# Altium schematic symbol library SparkFun-GPS.SCHLIB: 8 symbols
Pins are listed as number, name and electrical type; pins without a type are passive.

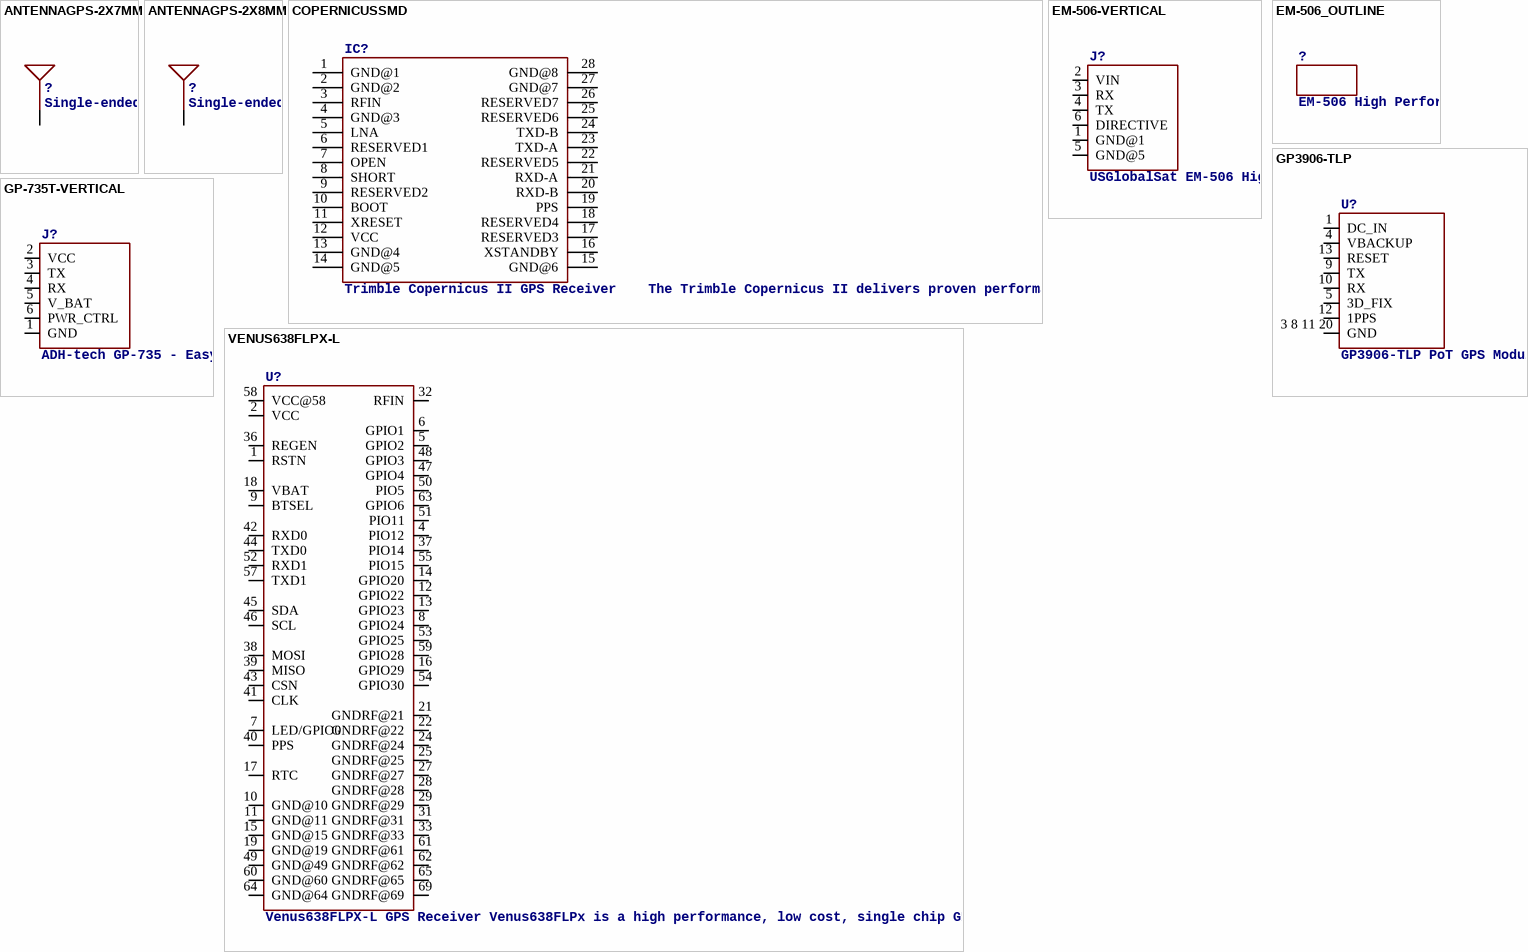
[diagram p0: symbols ANTENNAGPS-2X7MM to VENUS638FLPX-L]

## ANTENNAGPS-2X7MM
designator ?, comment Single-ended Antennae    1.575GHz antennae with just one terminal. These are all chip antennae.   1575MHz (GPS) Antennae ANT-GPS-2X7MM - 2.0 x 7.0 mm chip antenna. (SparkFun Product)  ANT-GPS-2X8MM - 2.0 x 8.0 mm chip antenna. (SparkFun Product)
PROD_ID: ANT-09087; SF_ID: GPS-09131
footprint ANT-GPS-2X7MM
pins: 1 SIGNAL

## ANTENNAGPS-2X8MM
designator ?, comment Single-ended Antennae    1.575GHz antennae with just one terminal. These are all chip antennae.   1575MHz (GPS) Antennae ANT-GPS-2X7MM - 2.0 x 7.0 mm chip antenna. (SparkFun Product)  ANT-GPS-2X8MM - 2.0 x 8.0 mm chip antenna. (SparkFun Product)
PROD_ID: GPS-08510; SF_ID: GPS-08418
footprint ANT-GPS-2X8MM
pins: SIG SIGNAL

## COPERNICUSSMD
designator IC?, comment Trimble Copernicus II GPS Receiver    The Trimble Copernicus II delivers proven performance and Trimble quality for a new generation of position-enabled products. It features the TrimCore™ navigation software for extremely fast startup times and high performance in foliage canopy and urban canyon environments.   SparkFun Products GPS Module - Copernicus II (12 Channel) (GPS-10922)  SparkFun GPS Module - Copernicus II DIP (12 Channel) (GPS-11858)
PROD_ID: GPS-10735; SF_ID: GPS-10922
footprint COPERNICUS
pins: 1 GND@1, 2 GND@2, 3 RFIN, 4 GND@3, 5 LNA, 6 RESERVED1, 7 OPEN, 8 SHORT, 9 RESERVED2, 10 BOOT, 11 XRESET, 12 VCC, 13 GND@4, 14 GND@5, 15 GND@6, 16 XSTANDBY, 17 RESERVED3, 18 RESERVED4, 19 PPS, 20 RXD-B, 21 RXD-A, 22 RESERVED5, 23 TXD-A, 24 TXD-B, 25 RESERVED6, 26 RESERVED7, 27 GND@7, 28 GND@8

## EM-506-VERTICAL
designator J?, comment USGlobalSat EM-506 High Performance GPS Module    EM-506 GPS module features high sensitivity, low power and ultra small form factor. This GPS module is powered by SiRF Star IV, it can provide you with superior sensitivity and performance even in urban canyon and dense foliage environment. With SiRF CGEE (Client Generated Extended Ephemeris) technology, it predicts satellite positions for up to 3 days and delivers CGEE-start time of less than 15 seconds under most conditions, without any network assistance. Besides, MicroPower Mode allows GPS module to stay in a hot-start condition nearly continuously while consuming very little power.   SparkFun Products GPS Receiver - EM-506 (48 Channel) (GPS-12751)
PROD_ID: CONN-08249
footprint JST-6PIN-1MM
pins: 1 GND@1, 2 VIN, 3 RX, 4 TX, 5 GND@5, 6 DIRECTIVE

## EM-506_OUTLINE
designator ?, comment EM-506 High Performance GPS Module    EM-506 GPS module features high sensitivity, low power and ultra small form factor. This GPS module is powered by SiRF Star IV, it can provide you with superior sensitivity and performance even in urban canyon and dense foliage environment. With SiRF CGEE (Client Generated Extended Ephemeris) technology, it predicts satellite positions for up to 3 days and delivers CGEE-start time of less than 15 seconds under most conditions, without any network assistance. Besides, MicroPower Mode allows GPS module to stay in a hot-start condition nearly continuously while consuming very little power.   SparkFun Products GPS Receiver - EM-506 (48 Channel) (GPS-12751)
PROD_ID: GPS-11958; SF_ID: GPS-12751
footprint EM-506_OUTLINE

## GP3906-TLP
designator U?, comment GP3906-TLP PoT GPS Module    The GP3906-TLP is a POT (Patch on Top) GPS module which is special designed for ultra low power consumption purpose environment. It is a GPS receiver providing a solution that high position and speed accuracy performances as well as high sensitivity and tracking capabilities in urban conditions. The GPS chipsets inside the module are designed by MediaTek Inc., which is the world's leading digital media solution provider and largest fab-less IC company in Taiwan. The module can support up to 66 channels. The GPS solution enables small form factor devices. They deliver major advancements in GPS performances, accuracy, integration, computing power and flexibility. They are designed to simplify the embedded system integration process.   Features:  Based on MediaTek Single Chip Architecture (MT3339).  ARM7 based application processor  High sensitivity: -165dBm tracking  L1 frequency, C/A code  Channels: 66 acquisition, 22 simultaneous tracking  Low power consumption: 26mA @ acquisition, 20mA @ tracking  Cold/Warm/Hot start time: <35/<33/<1 seconds  Maximum update rate up to 10Hz  GPS data interface: TTL level serial port  Support NMEA 0183 standard V3.01 and backward compliance  Support SBAS – WAAS, EGNOS, GAGAN and MSAS  Dimension：16mm x 16mm x 6.7mm  RoHS compliant  Advanced software features  AlwaysLocate TM advanced location awareness technology  EPO TM orbit prediction  Supports logger function (LOCUS)       SparkFun Products SparkFun GPS Logger Shield
PROD_ID: GPS-13174
footprint GP3906-TLP
pins: 1 DC_IN, 3 8 11 20 GND, 4 VBACKUP, 5 3D_FIX, 9 TX, 10 RX, 12 1PPS, 13 RESET

## GP-735T-VERTICAL
designator J?, comment ADH-tech GP-735 - Easy-to-use, Ultra-high performance, GPS Smart Antenna Module    ADH-tech GP-735 is a slim, ultra-high performance, easy to use GPS smart antenna module designed with u-blox’s latest 7th generation single chip. This feature rich GPS module not only shortens the design efforts but also provides powerful functions. The compact design allows fast adoption and high yield production. The power control feature is very convenient to turn on/off power just via GPIO control pin. It’s  especially useful to turn off power as the GPS function is not needed in the host applications.   Datasheet   SparkFun Products GPS Receiver - GP-735 (56 Channel) (GPS-13670)
PROD_ID: CONN-08249
footprint JST-6PIN-1MM
pins: 1 GND, 2 VCC, 3 TX, 4 RX, 5 V_BAT, 6 PWR_CTRL

## VENUS638FLPX-L
designator U?, comment Venus638FLPX-L GPS Receiver Venus638FLPx is a high performance, low cost, single chip GPS receiver targeting mobile consumer and cellular handset applications. It offers very low power consumption, high sensitivity, and best in class signal acquisition and time-to-first-fix performance.   Venus638FLPx contains all the necessary components of a complete GPS receiver, includes 1.2dB cascaded system NF RF front-end, GPS baseband signal processor, 0.5ppm TCXO, 32.768kHz RTC crystal, RTC LDO regulator, and passive components. It requires very low external component count and takes up only 100mm2 PCB footprint.   Dedicated massive-correlator signal parameter search engine within the baseband enables rapid search of all the available satellites and acquisition of very weak signal. An advanced track engine allows weak signal tracking and positioning in harsh environments such as urban canyons and under deep foliage. The self-contained architecture keeps GPS processing off the host and allows integration into applications with very little resource. SparkFun Products  GPS Module - Venus638FLPx-L 20Hz (14 Channel) (GPS-10919)
PROD_ID: IC-10734
footprint VENUS638FLPX
pins: 1 RSTN, 2 VCC, 4 PIO12, 5 GPIO2, 6 GPIO1, 7 LED/GPIO0, 8 GPIO24, 9 BTSEL, 10 GND@10, 11 GND@11, 12 GPIO22, 13 GPIO23, 14 GPIO20, 15 GND@15, 16 GPIO29, 17 RTC, 18 VBAT, 19 GND@19, 21 GNDRF@21, 22 GNDRF@22, 24 GNDRF@24, 25 GNDRF@25, 27 GNDRF@27, 28 GNDRF@28, 29 GNDRF@29, 31 GNDRF@31, 32 RFIN, 33 GNDRF@33, 36 REGEN, 37 PIO14, 38 MOSI, 39 MISO, 40 PPS, 41 CLK, 42 RXD0, 43 CSN, 44 TXD0, 45 SDA, 46 SCL, 47 GPIO4, 48 GPIO3, 49 GND@49, 50 PIO5, 51 PIO11, 52 RXD1, 53 GPIO25, 54 GPIO30, 55 PIO15, 57 TXD1, 58 VCC@58, 59 GPIO28, 60 GND@60, 61 GNDRF@61, 62 GNDRF@62, 63 GPIO6, 64 GND@64, 65 GNDRF@65, 69 GNDRF@69